# EAGLE library part MSGEQ7 (library FansElectronics-IC-Audio)
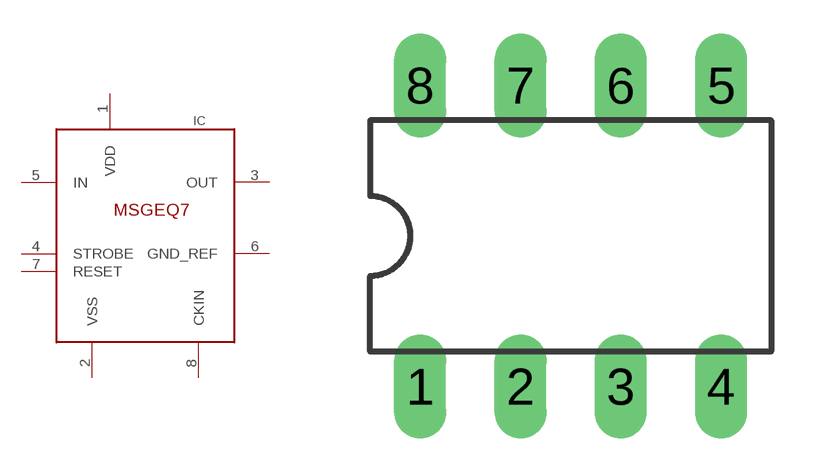
[diagram p0: symbol with the pads of DIL-08; footprint DIL-08]

Designator prefix IC

## MSGEQ7  [DIL-08]
1  VDD  pwr
2  VSS  pwr
3  OUT  out
4  STROBE
5  IN  in
6  GND_REF
7  RESET
8  CKIN

## Footprint DIL-08 (pad centres in mm)
drill 0.813 long: 1 -3.81,-3.81; 2 -1.27,-3.81; 3 1.27,-3.81; 4 3.81,-3.81; 5 3.81,3.81; 6 1.27,3.81; 7 -1.27,3.81; 8 -3.81,3.81